# Altium integrated library Actel eX.IntLib: 132 symbols (part 4 of 6)
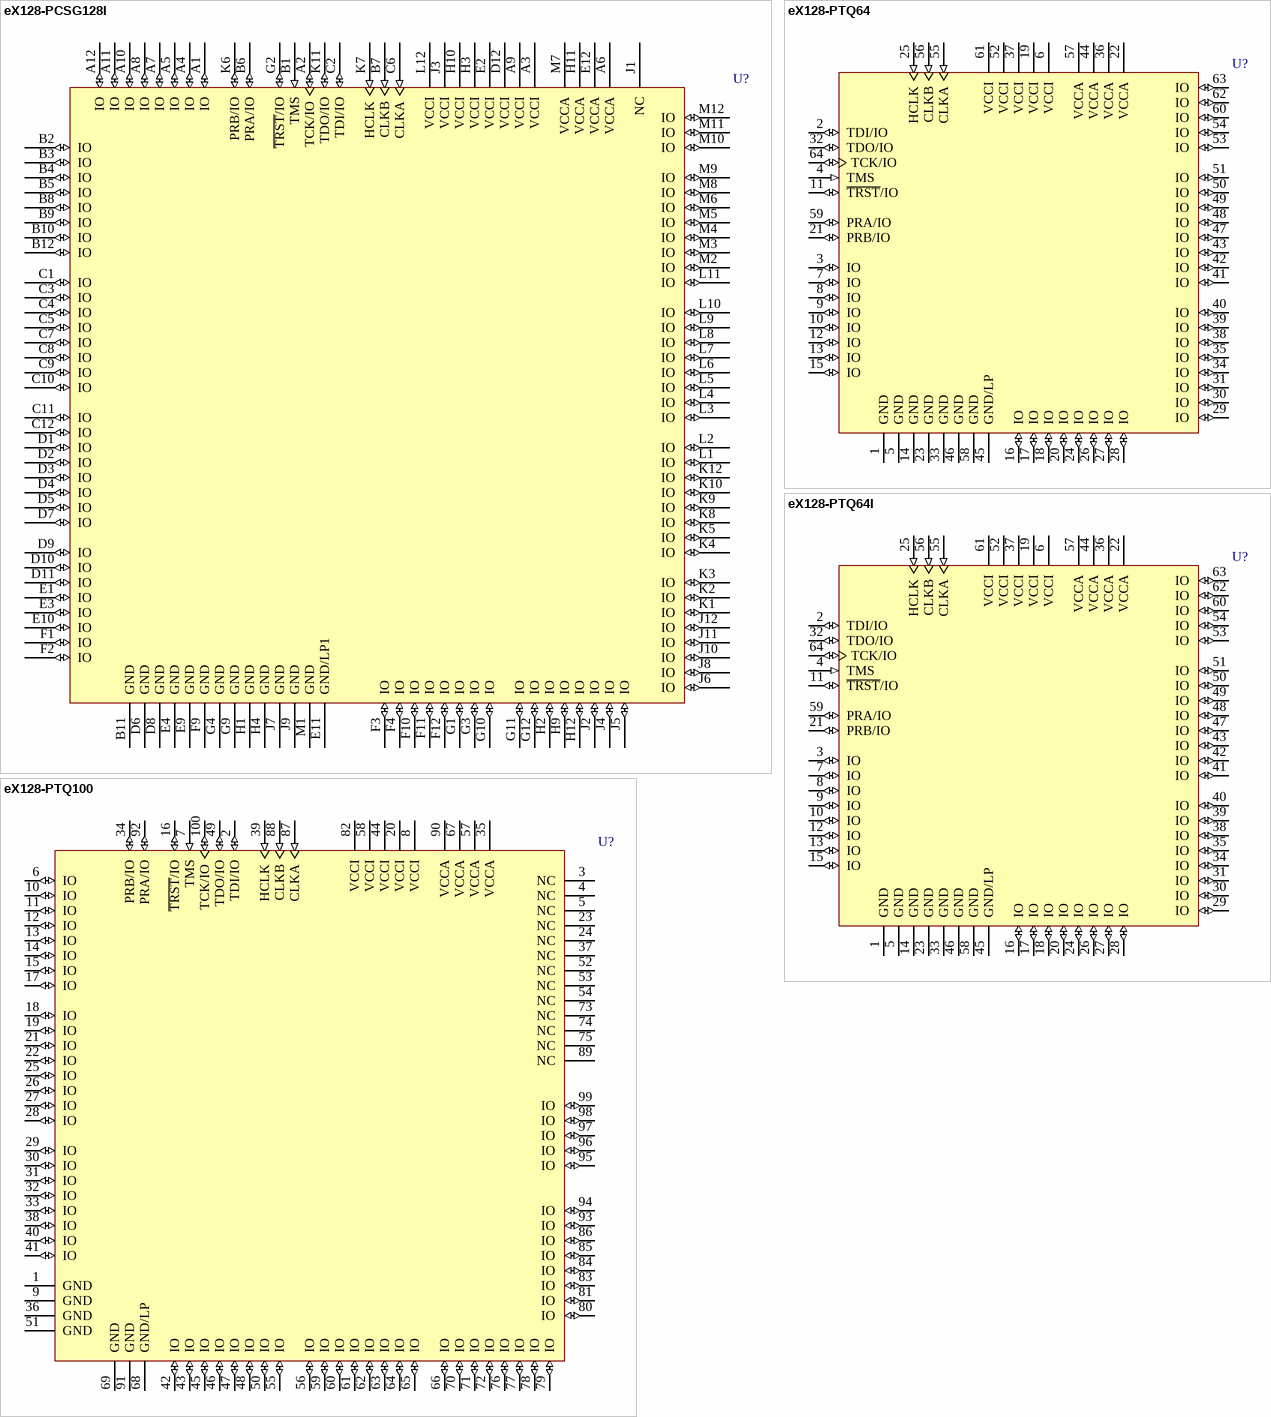
[diagram p41: symbols eX128-PCSG128I to eX128-PTQ100]

## eX128-PCSG128I
designator U?
eX128 FPGA, 100 User IOs, 128-Pin CSP, Speed Grade P, Industrial Grade, Pb-Free; DatasheetVersion: v4.3, Jun-2006; PackageVersion: ver11.2, Nov-2009; PackageReference: CS128; PackageDescription: 128-Ball Chip Scale Package (CS128); Code_JEDEC: MO-205-BD; ComponentLink1Description: Manufacturer URL; ComponentLink1URL: http://www.actel.com/; ComponentLink2Description: eX Datasheet; ComponentLink2URL: http://www.actel.com/documents/eX_DS.pdf; ComponentLink3Description: Package Mechanical Drawings; ComponentLink3URL: http://www.actel.com/documents/PckgMechDrwngs.pdf; ComponentLink4Description: eX Documents; ComponentLink4URL: http://www.actel.com/products/ex/docs.aspx
footprint CS128 (BGA, 128-Leads, Body 11x11mm, Pitch 0.8mm)
pins: A1 IO (io), A2 TCK/IO (io), A3 VCCI (power), A4 IO (io), A5 IO (io), A6 VCCA (power), A7 IO (io), A8 IO (io), A9 VCCI (power), A10 IO (io), A11 IO (io), A12 IO (io), B1 TMS (in), B2 IO (io), B3 IO (io), B4 IO (io), B5 IO (io), B6 PRA/IO (io), B7 CLKB (in), B8 IO (io), B9 IO (io), B10 IO (io), B11 GND (power), B12 IO (io), C1 IO (io), C2 TDI/IO (io), C3 IO (io), C4 IO (io), C5 IO (io), C6 CLKA (in), C7 IO (io), C8 IO (io), C9 IO (io), C10 IO (io), C11 IO (io), C12 IO (io), D1 IO (io), D2 IO (io), D3 IO (io), D4 IO (io), D5 IO (io), D6 GND (power), D7 IO (io), D8 GND (power), D9 IO (io), D10 IO (io), D11 IO (io), D12 VCCI (power), E1 IO (io), E2 VCCI (power), E3 IO (io), E4 GND (power), E9 GND (power), E10 IO (io), E11 GND/LP1 (power), E12 VCCA (power), F1 IO (io), F2 IO (io), F3 IO (io), F4 IO (io), F9 GND (power), F10 IO (io), F11 IO (io), F12 IO (io), G1 IO (io), G2 ~{TRST}/IO (io), G3 IO (io), G4 GND (power), G9 GND (power), G10 IO (io), G11 IO (io), G12 IO (io), H1 GND (power), H2 IO (io), H3 VCCI (power), H4 GND (power), H9 IO (io), H10 VCCI (power), H11 VCCA (power), H12 IO (io), J1 NC, J2 IO (io), J3 VCCI (power), J4 IO (io), J5 IO (io), J6 IO (io), J7 GND (power), J8 IO (io), J9 GND (power), J10 IO (io), J11 IO (io), J12 IO (io), K1 IO (io), K2 IO (io), K3 IO (io), K4 IO (io), K5 IO (io), K6 PRB/IO (io), K7 HCLK (in), K8 IO (io), K9 IO (io), K10 IO (io), K11 TDO/IO (io), K12 IO (io), L1 IO (io), L2 IO (io), L3 IO (io), L4 IO (io), L5 IO (io), L6 IO (io), L7 IO (io), L8 IO (io), L9 IO (io), L10 IO (io), L11 IO (io), L12 VCCI (power), M1 GND (power), M2 IO (io), M3 IO (io), M4 IO (io), M5 IO (io), M6 IO (io), M7 VCCA (power), M8 IO (io), M9 IO (io), M10 IO (io), M11 IO (io), M12 IO (io)

## eX128-PTQ64
designator U?
eX128 FPGA, 46 User IOs, 64-Pin TQFP, Speed Grade P, Commercial Grade; DatasheetVersion: v4.3, Jun-2006; PackageVersion: ver11.2, Nov-2009; PackageReference: TQ64; PackageDescription: 64-Pin Plastic Quad Flat Pack (TQ64); Code_JEDEC: MS-026-BCD; ComponentLink1Description: Manufacturer URL; ComponentLink1URL: http://www.actel.com/; ComponentLink2Description: eX Datasheet; ComponentLink2URL: http://www.actel.com/documents/eX_DS.pdf; ComponentLink3Description: Package Mechanical Drawings; ComponentLink3URL: http://www.actel.com/documents/PckgMechDrwngs.pdf; ComponentLink4Description: eX Documents; ComponentLink4URL: http://www.actel.com/products/ex/docs.aspx
footprint TQ64_N (Thin QFP, 64-Leads, Body 10x10mm, Pitch 0.5mm, IPC Medium Density)
footprint TQ64_L (Thin QFP, 64-Leads, Body 10x10mm, Pitch 0.5mm, IPC High Density)
footprint TQ64_M (Thin QFP, 64-Leads, Body 10x10mm, Pitch 0.5mm, IPC Low Density)
pins: 1 GND (power), 2 TDI/IO (io), 3 IO (io), 4 TMS (in), 5 GND (power), 6 VCCI (power), 7 IO (io), 8 IO (io), 9 IO (io), 10 IO (io), 11 ~{TRST}/IO (io), 12 IO (io), 13 IO (io), 14 GND (power), 15 IO (io), 16 IO (io), 17 IO (io), 18 IO (io), 19 VCCI (power), 20 IO (io), 21 PRB/IO (io), 22 VCCA (power), 23 GND (power), 24 IO (io), 25 HCLK (in), 26 IO (io), 27 IO (io), 28 IO (io), 29 IO (io), 30 IO (io), 31 IO (io), 32 TDO/IO (io), 33 GND (power), 34 IO (io), 35 IO (io), 36 VCCA (power), 37 VCCI (power), 38 IO (io), 39 IO (io), 40 IO (io), 41 IO (io), 42 IO (io), 43 IO (io), 44 VCCA (power), 45 GND/LP (power), 46 GND (power), 47 IO (io), 48 IO (io), 49 IO (io), 50 IO (io), 51 IO (io), 52 VCCI (power), 53 IO (io), 54 IO (io), 55 CLKA (in), 56 CLKB (in), 57 VCCA (power), 58 GND (power), 59 PRA/IO (io), 60 IO (io), 61 VCCI (power), 62 IO (io), 63 IO (io), 64 TCK/IO (io)

## eX128-PTQ64I
designator U?
eX128 FPGA, 46 User IOs, 64-Pin TQFP, Speed Grade P, Industrial Grade; DatasheetVersion: v4.3, Jun-2006; PackageVersion: ver11.2, Nov-2009; PackageReference: TQ64; PackageDescription: 64-Pin Plastic Quad Flat Pack (TQ64); Code_JEDEC: MS-026-BCD; ComponentLink1Description: Manufacturer URL; ComponentLink1URL: http://www.actel.com/; ComponentLink2Description: eX Datasheet; ComponentLink2URL: http://www.actel.com/documents/eX_DS.pdf; ComponentLink3Description: Package Mechanical Drawings; ComponentLink3URL: http://www.actel.com/documents/PckgMechDrwngs.pdf; ComponentLink4Description: eX Documents; ComponentLink4URL: http://www.actel.com/products/ex/docs.aspx
footprint TQ64_N (Thin QFP, 64-Leads, Body 10x10mm, Pitch 0.5mm, IPC Medium Density)
footprint TQ64_L (Thin QFP, 64-Leads, Body 10x10mm, Pitch 0.5mm, IPC High Density)
footprint TQ64_M (Thin QFP, 64-Leads, Body 10x10mm, Pitch 0.5mm, IPC Low Density)
pins: 1 GND (power), 2 TDI/IO (io), 3 IO (io), 4 TMS (in), 5 GND (power), 6 VCCI (power), 7 IO (io), 8 IO (io), 9 IO (io), 10 IO (io), 11 ~{TRST}/IO (io), 12 IO (io), 13 IO (io), 14 GND (power), 15 IO (io), 16 IO (io), 17 IO (io), 18 IO (io), 19 VCCI (power), 20 IO (io), 21 PRB/IO (io), 22 VCCA (power), 23 GND (power), 24 IO (io), 25 HCLK (in), 26 IO (io), 27 IO (io), 28 IO (io), 29 IO (io), 30 IO (io), 31 IO (io), 32 TDO/IO (io), 33 GND (power), 34 IO (io), 35 IO (io), 36 VCCA (power), 37 VCCI (power), 38 IO (io), 39 IO (io), 40 IO (io), 41 IO (io), 42 IO (io), 43 IO (io), 44 VCCA (power), 45 GND/LP (power), 46 GND (power), 47 IO (io), 48 IO (io), 49 IO (io), 50 IO (io), 51 IO (io), 52 VCCI (power), 53 IO (io), 54 IO (io), 55 CLKA (in), 56 CLKB (in), 57 VCCA (power), 58 GND (power), 59 PRA/IO (io), 60 IO (io), 61 VCCI (power), 62 IO (io), 63 IO (io), 64 TCK/IO (io)

## eX128-PTQ100
designator U?
eX128 FPGA, 70 User IOs, 100-Pin TQFP, Speed Grade P, Commercial Grade; DatasheetVersion: v4.3, Jun-2006; PackageVersion: ver11.2, Nov-2009; PackageReference: TQ100; PackageDescription: 100-Pin Plastic Quad Flat Pack (TQ100); Code_JEDEC: MS-026-BED; ComponentLink1Description: Manufacturer URL; ComponentLink1URL: http://www.actel.com/; ComponentLink2Description: eX Datasheet; ComponentLink2URL: http://www.actel.com/documents/eX_DS.pdf; ComponentLink3Description: Package Mechanical Drawings; ComponentLink3URL: http://www.actel.com/documents/PckgMechDrwngs.pdf; ComponentLink4Description: eX Documents; ComponentLink4URL: http://www.actel.com/products/ex/docs.aspx
footprint TQ100_N (Thin QFP, 100-Leads, Body 14x14mm, Pitch 0.5mm, IPC Medium Density)
footprint TQ100_L (Thin QFP, 100-Leads, Body 14x14mm, Pitch 0.5mm, IPC High Density)
footprint TQ100_M (Thin QFP, 100-Leads, Body 14x14mm, Pitch 0.5mm, IPC Low Density)
pins: 1 GND (power), 2 TDI/IO (io), 3 NC, 4 NC, 5 NC, 6 IO (io), 7 TMS (in), 8 VCCI (power), 9 GND (power), 10 IO (io), 11 IO (io), 12 IO (io), 13 IO (io), 14 IO (io), 15 IO (io), 16 ~{TRST}/IO (io), 17 IO (io), 18 IO (io), 19 IO (io), 20 VCCI (power), 21 IO (io), 22 IO (io), 23 NC, 24 NC, 25 IO (io), 26 IO (io), 27 IO (io), 28 IO (io), 29 IO (io), 30 IO (io), 31 IO (io), 32 IO (io), 33 IO (io), 34 PRB/IO (io), 35 VCCA (power), 36 GND (power), 37 NC, 38 IO (io), 39 HCLK (in), 40 IO (io), 41 IO (io), 42 IO (io), 43 IO (io), 44 VCCI (power), 45 IO (io), 46 IO (io), 47 IO (io), 48 IO (io), 49 TDO/IO (io), 50 IO (io), 51 GND (power), 52 NC, 53 NC, 54 NC, 55 IO (io), 56 IO (io), 57 VCCA (power), 58 VCCI (power), 59 IO (io), 60 IO (io), 61 IO (io), 62 IO (io), 63 IO (io), 64 IO (io), 65 IO (io), 66 IO (io), 67 VCCA (power), 68 GND/LP (power), 69 GND (power), 70 IO (io), 71 IO (io), 72 IO (io), 73 NC, 74 NC, 75 NC, 76 IO (io), 77 IO (io), 78 IO (io), 79 IO (io), 80 IO (io), 81 IO (io), 82 VCCI (power), 83 IO (io), 84 IO (io), 85 IO (io), 86 IO (io), 87 CLKA (in), 88 CLKB (in), 89 NC, 90 VCCA (power), 91 GND (power), 92 PRA/IO (io), 93 IO (io), 94 IO (io), 95 IO (io), 96 IO (io), 97 IO (io), 98 IO (io), 99 IO (io), 100 TCK/IO (io)

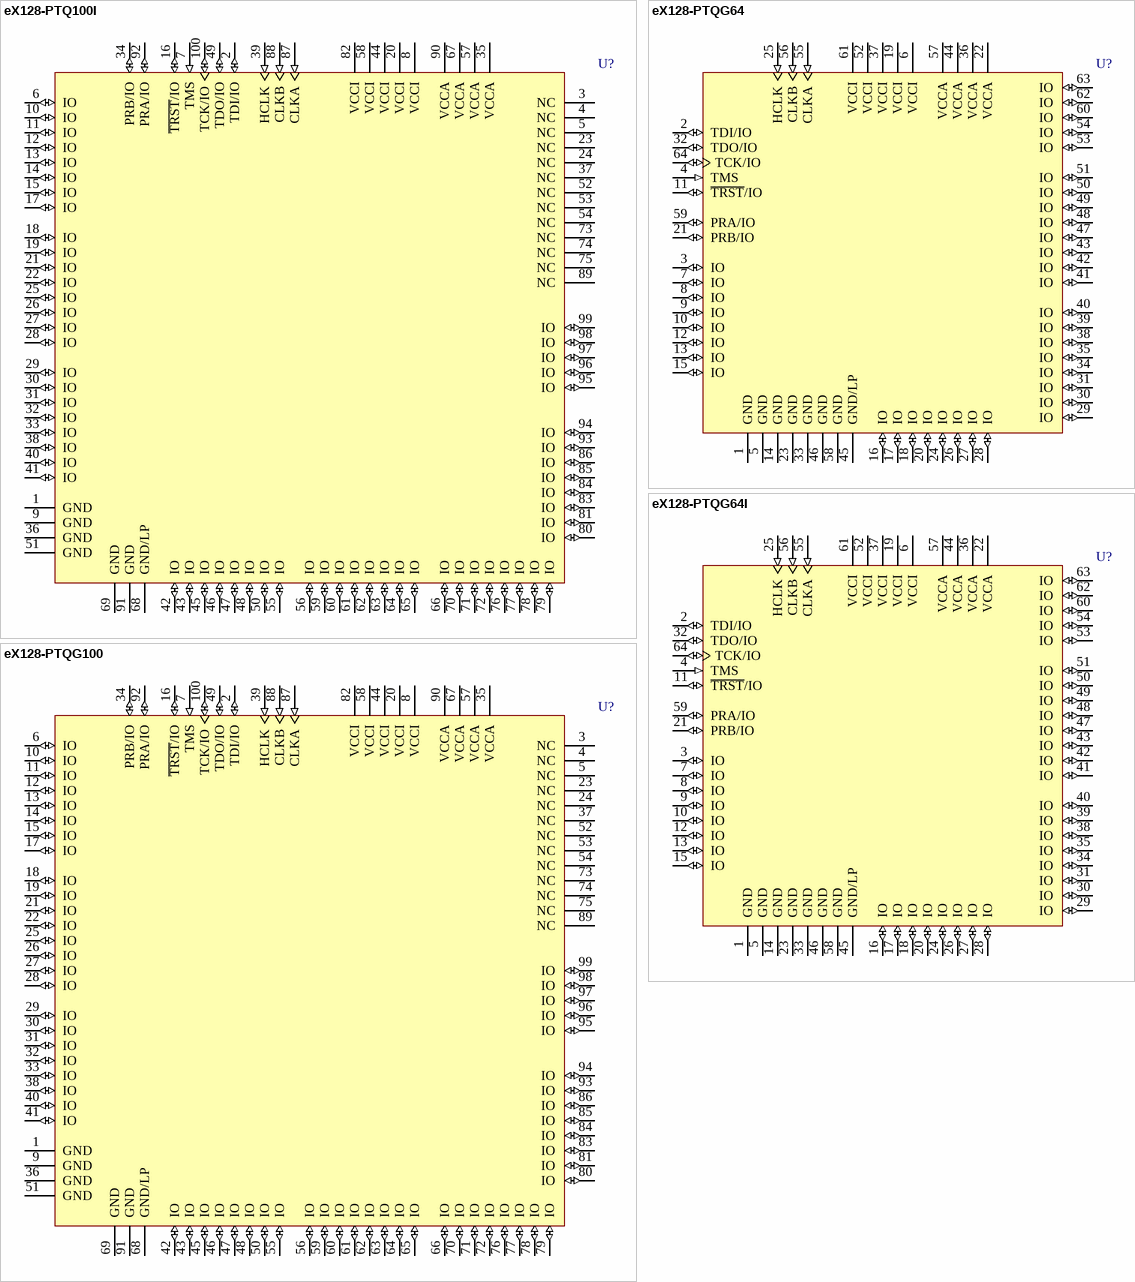
[diagram p19: symbols eX128-PTQ100I to eX128-PTQG100]

## eX128-PTQ100I
designator U?
eX128 FPGA, 70 User IOs, 100-Pin TQFP, Speed Grade P, Industrial Grade; DatasheetVersion: v4.3, Jun-2006; PackageVersion: ver11.2, Nov-2009; PackageReference: TQ100; PackageDescription: 100-Pin Plastic Quad Flat Pack (TQ100); Code_JEDEC: MS-026-BED; ComponentLink1Description: Manufacturer URL; ComponentLink1URL: http://www.actel.com/; ComponentLink2Description: eX Datasheet; ComponentLink2URL: http://www.actel.com/documents/eX_DS.pdf; ComponentLink3Description: Package Mechanical Drawings; ComponentLink3URL: http://www.actel.com/documents/PckgMechDrwngs.pdf; ComponentLink4Description: eX Documents; ComponentLink4URL: http://www.actel.com/products/ex/docs.aspx
footprint TQ100_N (Thin QFP, 100-Leads, Body 14x14mm, Pitch 0.5mm, IPC Medium Density)
footprint TQ100_L (Thin QFP, 100-Leads, Body 14x14mm, Pitch 0.5mm, IPC High Density)
footprint TQ100_M (Thin QFP, 100-Leads, Body 14x14mm, Pitch 0.5mm, IPC Low Density)
pins: 1 GND (power), 2 TDI/IO (io), 3 NC, 4 NC, 5 NC, 6 IO (io), 7 TMS (in), 8 VCCI (power), 9 GND (power), 10 IO (io), 11 IO (io), 12 IO (io), 13 IO (io), 14 IO (io), 15 IO (io), 16 ~{TRST}/IO (io), 17 IO (io), 18 IO (io), 19 IO (io), 20 VCCI (power), 21 IO (io), 22 IO (io), 23 NC, 24 NC, 25 IO (io), 26 IO (io), 27 IO (io), 28 IO (io), 29 IO (io), 30 IO (io), 31 IO (io), 32 IO (io), 33 IO (io), 34 PRB/IO (io), 35 VCCA (power), 36 GND (power), 37 NC, 38 IO (io), 39 HCLK (in), 40 IO (io), 41 IO (io), 42 IO (io), 43 IO (io), 44 VCCI (power), 45 IO (io), 46 IO (io), 47 IO (io), 48 IO (io), 49 TDO/IO (io), 50 IO (io), 51 GND (power), 52 NC, 53 NC, 54 NC, 55 IO (io), 56 IO (io), 57 VCCA (power), 58 VCCI (power), 59 IO (io), 60 IO (io), 61 IO (io), 62 IO (io), 63 IO (io), 64 IO (io), 65 IO (io), 66 IO (io), 67 VCCA (power), 68 GND/LP (power), 69 GND (power), 70 IO (io), 71 IO (io), 72 IO (io), 73 NC, 74 NC, 75 NC, 76 IO (io), 77 IO (io), 78 IO (io), 79 IO (io), 80 IO (io), 81 IO (io), 82 VCCI (power), 83 IO (io), 84 IO (io), 85 IO (io), 86 IO (io), 87 CLKA (in), 88 CLKB (in), 89 NC, 90 VCCA (power), 91 GND (power), 92 PRA/IO (io), 93 IO (io), 94 IO (io), 95 IO (io), 96 IO (io), 97 IO (io), 98 IO (io), 99 IO (io), 100 TCK/IO (io)

## eX128-PTQG64
designator U?
eX128 FPGA, 46 User IOs, 64-Pin TQFP, Speed Grade P, Commercial Grade, Pb-Free; DatasheetVersion: v4.3, Jun-2006; PackageVersion: ver11.2, Nov-2009; PackageReference: TQ64; PackageDescription: 64-Pin Plastic Quad Flat Pack (TQ64); Code_JEDEC: MS-026-BCD; ComponentLink1Description: Manufacturer URL; ComponentLink1URL: http://www.actel.com/; ComponentLink2Description: eX Datasheet; ComponentLink2URL: http://www.actel.com/documents/eX_DS.pdf; ComponentLink3Description: Package Mechanical Drawings; ComponentLink3URL: http://www.actel.com/documents/PckgMechDrwngs.pdf; ComponentLink4Description: eX Documents; ComponentLink4URL: http://www.actel.com/products/ex/docs.aspx
footprint TQ64_N (Thin QFP, 64-Leads, Body 10x10mm, Pitch 0.5mm, IPC Medium Density)
footprint TQ64_L (Thin QFP, 64-Leads, Body 10x10mm, Pitch 0.5mm, IPC High Density)
footprint TQ64_M (Thin QFP, 64-Leads, Body 10x10mm, Pitch 0.5mm, IPC Low Density)
pins: 1 GND (power), 2 TDI/IO (io), 3 IO (io), 4 TMS (in), 5 GND (power), 6 VCCI (power), 7 IO (io), 8 IO (io), 9 IO (io), 10 IO (io), 11 ~{TRST}/IO (io), 12 IO (io), 13 IO (io), 14 GND (power), 15 IO (io), 16 IO (io), 17 IO (io), 18 IO (io), 19 VCCI (power), 20 IO (io), 21 PRB/IO (io), 22 VCCA (power), 23 GND (power), 24 IO (io), 25 HCLK (in), 26 IO (io), 27 IO (io), 28 IO (io), 29 IO (io), 30 IO (io), 31 IO (io), 32 TDO/IO (io), 33 GND (power), 34 IO (io), 35 IO (io), 36 VCCA (power), 37 VCCI (power), 38 IO (io), 39 IO (io), 40 IO (io), 41 IO (io), 42 IO (io), 43 IO (io), 44 VCCA (power), 45 GND/LP (power), 46 GND (power), 47 IO (io), 48 IO (io), 49 IO (io), 50 IO (io), 51 IO (io), 52 VCCI (power), 53 IO (io), 54 IO (io), 55 CLKA (in), 56 CLKB (in), 57 VCCA (power), 58 GND (power), 59 PRA/IO (io), 60 IO (io), 61 VCCI (power), 62 IO (io), 63 IO (io), 64 TCK/IO (io)

## eX128-PTQG64I
designator U?
eX128 FPGA, 46 User IOs, 64-Pin TQFP, Speed Grade P, Industrial Grade, Pb-Free; DatasheetVersion: v4.3, Jun-2006; PackageVersion: ver11.2, Nov-2009; PackageReference: TQ64; PackageDescription: 64-Pin Plastic Quad Flat Pack (TQ64); Code_JEDEC: MS-026-BCD; ComponentLink1Description: Manufacturer URL; ComponentLink1URL: http://www.actel.com/; ComponentLink2Description: eX Datasheet; ComponentLink2URL: http://www.actel.com/documents/eX_DS.pdf; ComponentLink3Description: Package Mechanical Drawings; ComponentLink3URL: http://www.actel.com/documents/PckgMechDrwngs.pdf; ComponentLink4Description: eX Documents; ComponentLink4URL: http://www.actel.com/products/ex/docs.aspx
footprint TQ64_N (Thin QFP, 64-Leads, Body 10x10mm, Pitch 0.5mm, IPC Medium Density)
footprint TQ64_L (Thin QFP, 64-Leads, Body 10x10mm, Pitch 0.5mm, IPC High Density)
footprint TQ64_M (Thin QFP, 64-Leads, Body 10x10mm, Pitch 0.5mm, IPC Low Density)
pins: 1 GND (power), 2 TDI/IO (io), 3 IO (io), 4 TMS (in), 5 GND (power), 6 VCCI (power), 7 IO (io), 8 IO (io), 9 IO (io), 10 IO (io), 11 ~{TRST}/IO (io), 12 IO (io), 13 IO (io), 14 GND (power), 15 IO (io), 16 IO (io), 17 IO (io), 18 IO (io), 19 VCCI (power), 20 IO (io), 21 PRB/IO (io), 22 VCCA (power), 23 GND (power), 24 IO (io), 25 HCLK (in), 26 IO (io), 27 IO (io), 28 IO (io), 29 IO (io), 30 IO (io), 31 IO (io), 32 TDO/IO (io), 33 GND (power), 34 IO (io), 35 IO (io), 36 VCCA (power), 37 VCCI (power), 38 IO (io), 39 IO (io), 40 IO (io), 41 IO (io), 42 IO (io), 43 IO (io), 44 VCCA (power), 45 GND/LP (power), 46 GND (power), 47 IO (io), 48 IO (io), 49 IO (io), 50 IO (io), 51 IO (io), 52 VCCI (power), 53 IO (io), 54 IO (io), 55 CLKA (in), 56 CLKB (in), 57 VCCA (power), 58 GND (power), 59 PRA/IO (io), 60 IO (io), 61 VCCI (power), 62 IO (io), 63 IO (io), 64 TCK/IO (io)

## eX128-PTQG100
designator U?
eX128 FPGA, 70 User IOs, 100-Pin TQFP, Speed Grade P, Commercial Grade, Pb-Free; DatasheetVersion: v4.3, Jun-2006; PackageVersion: ver11.2, Nov-2009; PackageReference: TQ100; PackageDescription: 100-Pin Plastic Quad Flat Pack (TQ100); Code_JEDEC: MS-026-BED; ComponentLink1Description: Manufacturer URL; ComponentLink1URL: http://www.actel.com/; ComponentLink2Description: eX Datasheet; ComponentLink2URL: http://www.actel.com/documents/eX_DS.pdf; ComponentLink3Description: Package Mechanical Drawings; ComponentLink3URL: http://www.actel.com/documents/PckgMechDrwngs.pdf; ComponentLink4Description: eX Documents; ComponentLink4URL: http://www.actel.com/products/ex/docs.aspx
footprint TQ100_N (Thin QFP, 100-Leads, Body 14x14mm, Pitch 0.5mm, IPC Medium Density)
footprint TQ100_L (Thin QFP, 100-Leads, Body 14x14mm, Pitch 0.5mm, IPC High Density)
footprint TQ100_M (Thin QFP, 100-Leads, Body 14x14mm, Pitch 0.5mm, IPC Low Density)
pins: 1 GND (power), 2 TDI/IO (io), 3 NC, 4 NC, 5 NC, 6 IO (io), 7 TMS (in), 8 VCCI (power), 9 GND (power), 10 IO (io), 11 IO (io), 12 IO (io), 13 IO (io), 14 IO (io), 15 IO (io), 16 ~{TRST}/IO (io), 17 IO (io), 18 IO (io), 19 IO (io), 20 VCCI (power), 21 IO (io), 22 IO (io), 23 NC, 24 NC, 25 IO (io), 26 IO (io), 27 IO (io), 28 IO (io), 29 IO (io), 30 IO (io), 31 IO (io), 32 IO (io), 33 IO (io), 34 PRB/IO (io), 35 VCCA (power), 36 GND (power), 37 NC, 38 IO (io), 39 HCLK (in), 40 IO (io), 41 IO (io), 42 IO (io), 43 IO (io), 44 VCCI (power), 45 IO (io), 46 IO (io), 47 IO (io), 48 IO (io), 49 TDO/IO (io), 50 IO (io), 51 GND (power), 52 NC, 53 NC, 54 NC, 55 IO (io), 56 IO (io), 57 VCCA (power), 58 VCCI (power), 59 IO (io), 60 IO (io), 61 IO (io), 62 IO (io), 63 IO (io), 64 IO (io), 65 IO (io), 66 IO (io), 67 VCCA (power), 68 GND/LP (power), 69 GND (power), 70 IO (io), 71 IO (io), 72 IO (io), 73 NC, 74 NC, 75 NC, 76 IO (io), 77 IO (io), 78 IO (io), 79 IO (io), 80 IO (io), 81 IO (io), 82 VCCI (power), 83 IO (io), 84 IO (io), 85 IO (io), 86 IO (io), 87 CLKA (in), 88 CLKB (in), 89 NC, 90 VCCA (power), 91 GND (power), 92 PRA/IO (io), 93 IO (io), 94 IO (io), 95 IO (io), 96 IO (io), 97 IO (io), 98 IO (io), 99 IO (io), 100 TCK/IO (io)

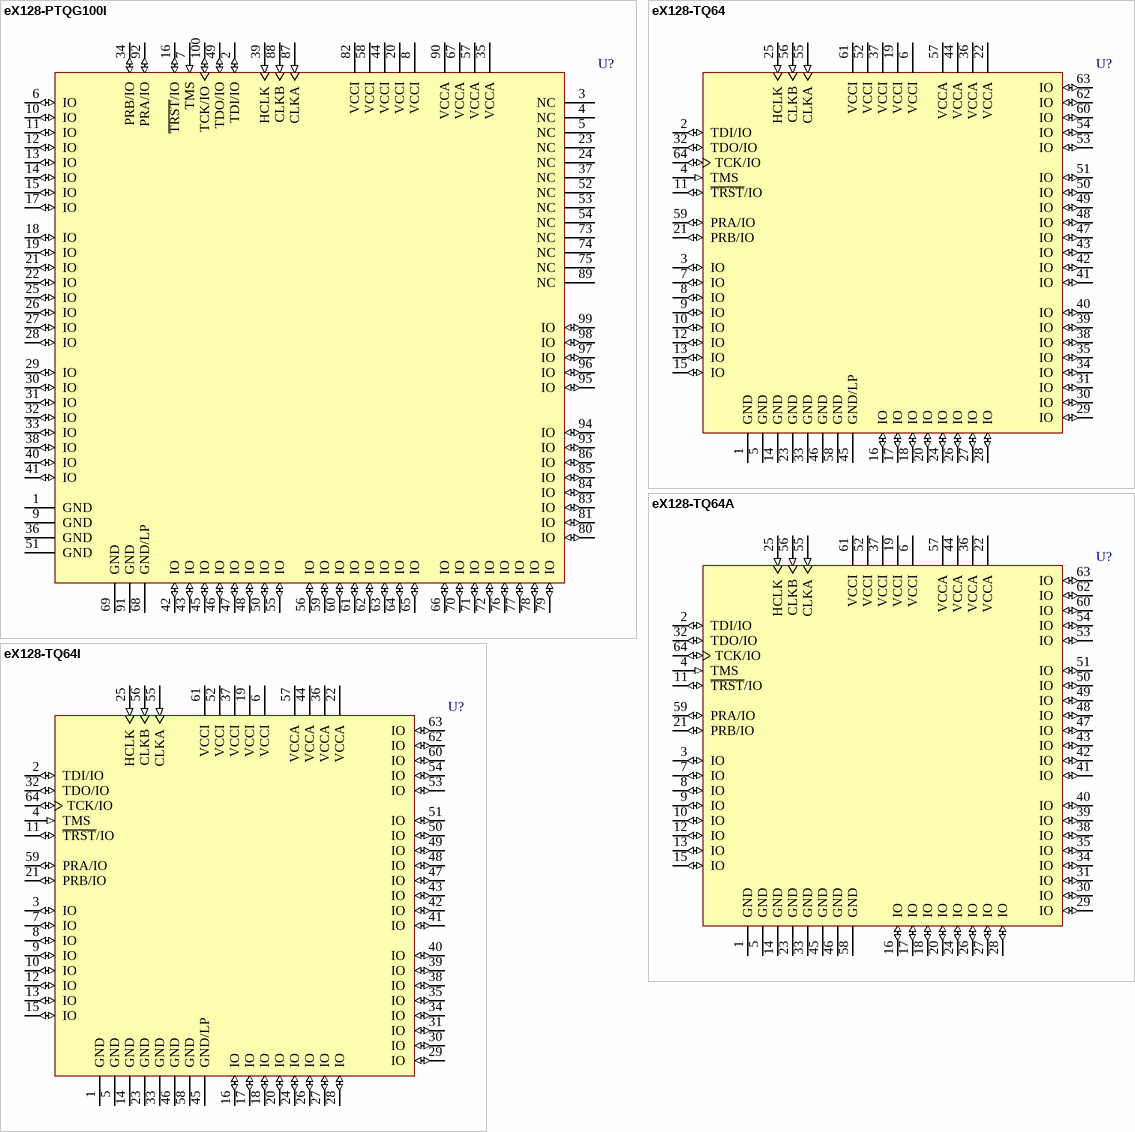
[diagram p20: symbols eX128-PTQG100I to eX128-TQ64I]

## eX128-PTQG100I
designator U?
eX128 FPGA, 70 User IOs, 100-Pin TQFP, Speed Grade P, Industrial Grade, Pb-Free; DatasheetVersion: v4.3, Jun-2006; PackageVersion: ver11.2, Nov-2009; PackageReference: TQ100; PackageDescription: 100-Pin Plastic Quad Flat Pack (TQ100); Code_JEDEC: MS-026-BED; ComponentLink1Description: Manufacturer URL; ComponentLink1URL: http://www.actel.com/; ComponentLink2Description: eX Datasheet; ComponentLink2URL: http://www.actel.com/documents/eX_DS.pdf; ComponentLink3Description: Package Mechanical Drawings; ComponentLink3URL: http://www.actel.com/documents/PckgMechDrwngs.pdf; ComponentLink4Description: eX Documents; ComponentLink4URL: http://www.actel.com/products/ex/docs.aspx
footprint TQ100_N (Thin QFP, 100-Leads, Body 14x14mm, Pitch 0.5mm, IPC Medium Density)
footprint TQ100_L (Thin QFP, 100-Leads, Body 14x14mm, Pitch 0.5mm, IPC High Density)
footprint TQ100_M (Thin QFP, 100-Leads, Body 14x14mm, Pitch 0.5mm, IPC Low Density)
pins: 1 GND (power), 2 TDI/IO (io), 3 NC, 4 NC, 5 NC, 6 IO (io), 7 TMS (in), 8 VCCI (power), 9 GND (power), 10 IO (io), 11 IO (io), 12 IO (io), 13 IO (io), 14 IO (io), 15 IO (io), 16 ~{TRST}/IO (io), 17 IO (io), 18 IO (io), 19 IO (io), 20 VCCI (power), 21 IO (io), 22 IO (io), 23 NC, 24 NC, 25 IO (io), 26 IO (io), 27 IO (io), 28 IO (io), 29 IO (io), 30 IO (io), 31 IO (io), 32 IO (io), 33 IO (io), 34 PRB/IO (io), 35 VCCA (power), 36 GND (power), 37 NC, 38 IO (io), 39 HCLK (in), 40 IO (io), 41 IO (io), 42 IO (io), 43 IO (io), 44 VCCI (power), 45 IO (io), 46 IO (io), 47 IO (io), 48 IO (io), 49 TDO/IO (io), 50 IO (io), 51 GND (power), 52 NC, 53 NC, 54 NC, 55 IO (io), 56 IO (io), 57 VCCA (power), 58 VCCI (power), 59 IO (io), 60 IO (io), 61 IO (io), 62 IO (io), 63 IO (io), 64 IO (io), 65 IO (io), 66 IO (io), 67 VCCA (power), 68 GND/LP (power), 69 GND (power), 70 IO (io), 71 IO (io), 72 IO (io), 73 NC, 74 NC, 75 NC, 76 IO (io), 77 IO (io), 78 IO (io), 79 IO (io), 80 IO (io), 81 IO (io), 82 VCCI (power), 83 IO (io), 84 IO (io), 85 IO (io), 86 IO (io), 87 CLKA (in), 88 CLKB (in), 89 NC, 90 VCCA (power), 91 GND (power), 92 PRA/IO (io), 93 IO (io), 94 IO (io), 95 IO (io), 96 IO (io), 97 IO (io), 98 IO (io), 99 IO (io), 100 TCK/IO (io)

## eX128-TQ64
designator U?
eX128 FPGA, 46 User IOs, 64-Pin TQFP, Speed Grade Standard, Commercial Grade; DatasheetVersion: v4.3, Jun-2006; PackageVersion: ver11.2, Nov-2009; PackageReference: TQ64; PackageDescription: 64-Pin Plastic Quad Flat Pack (TQ64); Code_JEDEC: MS-026-BCD; ComponentLink1Description: Manufacturer URL; ComponentLink1URL: http://www.actel.com/; ComponentLink2Description: eX Datasheet; ComponentLink2URL: http://www.actel.com/documents/eX_DS.pdf; ComponentLink3Description: Package Mechanical Drawings; ComponentLink3URL: http://www.actel.com/documents/PckgMechDrwngs.pdf; ComponentLink4Description: eX Documents; ComponentLink4URL: http://www.actel.com/products/ex/docs.aspx
footprint TQ64_N (Thin QFP, 64-Leads, Body 10x10mm, Pitch 0.5mm, IPC Medium Density)
footprint TQ64_L (Thin QFP, 64-Leads, Body 10x10mm, Pitch 0.5mm, IPC High Density)
footprint TQ64_M (Thin QFP, 64-Leads, Body 10x10mm, Pitch 0.5mm, IPC Low Density)
pins: 1 GND (power), 2 TDI/IO (io), 3 IO (io), 4 TMS (in), 5 GND (power), 6 VCCI (power), 7 IO (io), 8 IO (io), 9 IO (io), 10 IO (io), 11 ~{TRST}/IO (io), 12 IO (io), 13 IO (io), 14 GND (power), 15 IO (io), 16 IO (io), 17 IO (io), 18 IO (io), 19 VCCI (power), 20 IO (io), 21 PRB/IO (io), 22 VCCA (power), 23 GND (power), 24 IO (io), 25 HCLK (in), 26 IO (io), 27 IO (io), 28 IO (io), 29 IO (io), 30 IO (io), 31 IO (io), 32 TDO/IO (io), 33 GND (power), 34 IO (io), 35 IO (io), 36 VCCA (power), 37 VCCI (power), 38 IO (io), 39 IO (io), 40 IO (io), 41 IO (io), 42 IO (io), 43 IO (io), 44 VCCA (power), 45 GND/LP (power), 46 GND (power), 47 IO (io), 48 IO (io), 49 IO (io), 50 IO (io), 51 IO (io), 52 VCCI (power), 53 IO (io), 54 IO (io), 55 CLKA (in), 56 CLKB (in), 57 VCCA (power), 58 GND (power), 59 PRA/IO (io), 60 IO (io), 61 VCCI (power), 62 IO (io), 63 IO (io), 64 TCK/IO (io)

## eX128-TQ64A
designator U?
eX128 FPGA, 46 User IOs, 64-Pin TQFP, Speed Grade Standard, Automotive Grade; DatasheetVersion: v3.2, Jun-2006; PackageVersion: ver11.2, Nov-2009; PackageReference: TQ64; PackageDescription: 64-Pin Plastic Quad Flat Pack (TQ64); Code_JEDEC: MS-026-BCD; ComponentLink1Description: Manufacturer URL; ComponentLink1URL: http://www.actel.com/; ComponentLink2Description: eX Datasheet; ComponentLink2URL: http://www.actel.com/documents/MX_Auto_DS.pdf; ComponentLink3Description: Package Mechanical Drawings; ComponentLink3URL: http://www.actel.com/documents/PckgMechDrwngs.pdf; ComponentLink4Description: eX Documents; ComponentLink4URL: http://www.actel.com/products/ex/docs.aspx
footprint TQ64_N (Thin QFP, 64-Leads, Body 10x10mm, Pitch 0.5mm, IPC Medium Density)
footprint TQ64_L (Thin QFP, 64-Leads, Body 10x10mm, Pitch 0.5mm, IPC High Density)
footprint TQ64_M (Thin QFP, 64-Leads, Body 10x10mm, Pitch 0.5mm, IPC Low Density)
pins: 1 GND (power), 2 TDI/IO (io), 3 IO (io), 4 TMS (in), 5 GND (power), 6 VCCI (power), 7 IO (io), 8 IO (io), 9 IO (io), 10 IO (io), 11 ~{TRST}/IO (io), 12 IO (io), 13 IO (io), 14 GND (power), 15 IO (io), 16 IO (io), 17 IO (io), 18 IO (io), 19 VCCI (power), 20 IO (io), 21 PRB/IO (io), 22 VCCA (power), 23 GND (power), 24 IO (io), 25 HCLK (in), 26 IO (io), 27 IO (io), 28 IO (io), 29 IO (io), 30 IO (io), 31 IO (io), 32 TDO/IO (io), 33 GND (power), 34 IO (io), 35 IO (io), 36 VCCA (power), 37 VCCI (power), 38 IO (io), 39 IO (io), 40 IO (io), 41 IO (io), 42 IO (io), 43 IO (io), 44 VCCA (power), 45 GND (power), 46 GND (power), 47 IO (io), 48 IO (io), 49 IO (io), 50 IO (io), 51 IO (io), 52 VCCI (power), 53 IO (io), 54 IO (io), 55 CLKA (in), 56 CLKB (in), 57 VCCA (power), 58 GND (power), 59 PRA/IO (io), 60 IO (io), 61 VCCI (power), 62 IO (io), 63 IO (io), 64 TCK/IO (io)

## eX128-TQ64I
designator U?
eX128 FPGA, 46 User IOs, 64-Pin TQFP, Speed Grade Standard, Industrial Grade; DatasheetVersion: v4.3, Jun-2006; PackageVersion: ver11.2, Nov-2009; PackageReference: TQ64; PackageDescription: 64-Pin Plastic Quad Flat Pack (TQ64); Code_JEDEC: MS-026-BCD; ComponentLink1Description: Manufacturer URL; ComponentLink1URL: http://www.actel.com/; ComponentLink2Description: eX Datasheet; ComponentLink2URL: http://www.actel.com/documents/eX_DS.pdf; ComponentLink3Description: Package Mechanical Drawings; ComponentLink3URL: http://www.actel.com/documents/PckgMechDrwngs.pdf; ComponentLink4Description: eX Documents; ComponentLink4URL: http://www.actel.com/products/ex/docs.aspx
footprint TQ64_N (Thin QFP, 64-Leads, Body 10x10mm, Pitch 0.5mm, IPC Medium Density)
footprint TQ64_L (Thin QFP, 64-Leads, Body 10x10mm, Pitch 0.5mm, IPC High Density)
footprint TQ64_M (Thin QFP, 64-Leads, Body 10x10mm, Pitch 0.5mm, IPC Low Density)
pins: 1 GND (power), 2 TDI/IO (io), 3 IO (io), 4 TMS (in), 5 GND (power), 6 VCCI (power), 7 IO (io), 8 IO (io), 9 IO (io), 10 IO (io), 11 ~{TRST}/IO (io), 12 IO (io), 13 IO (io), 14 GND (power), 15 IO (io), 16 IO (io), 17 IO (io), 18 IO (io), 19 VCCI (power), 20 IO (io), 21 PRB/IO (io), 22 VCCA (power), 23 GND (power), 24 IO (io), 25 HCLK (in), 26 IO (io), 27 IO (io), 28 IO (io), 29 IO (io), 30 IO (io), 31 IO (io), 32 TDO/IO (io), 33 GND (power), 34 IO (io), 35 IO (io), 36 VCCA (power), 37 VCCI (power), 38 IO (io), 39 IO (io), 40 IO (io), 41 IO (io), 42 IO (io), 43 IO (io), 44 VCCA (power), 45 GND/LP (power), 46 GND (power), 47 IO (io), 48 IO (io), 49 IO (io), 50 IO (io), 51 IO (io), 52 VCCI (power), 53 IO (io), 54 IO (io), 55 CLKA (in), 56 CLKB (in), 57 VCCA (power), 58 GND (power), 59 PRA/IO (io), 60 IO (io), 61 VCCI (power), 62 IO (io), 63 IO (io), 64 TCK/IO (io)

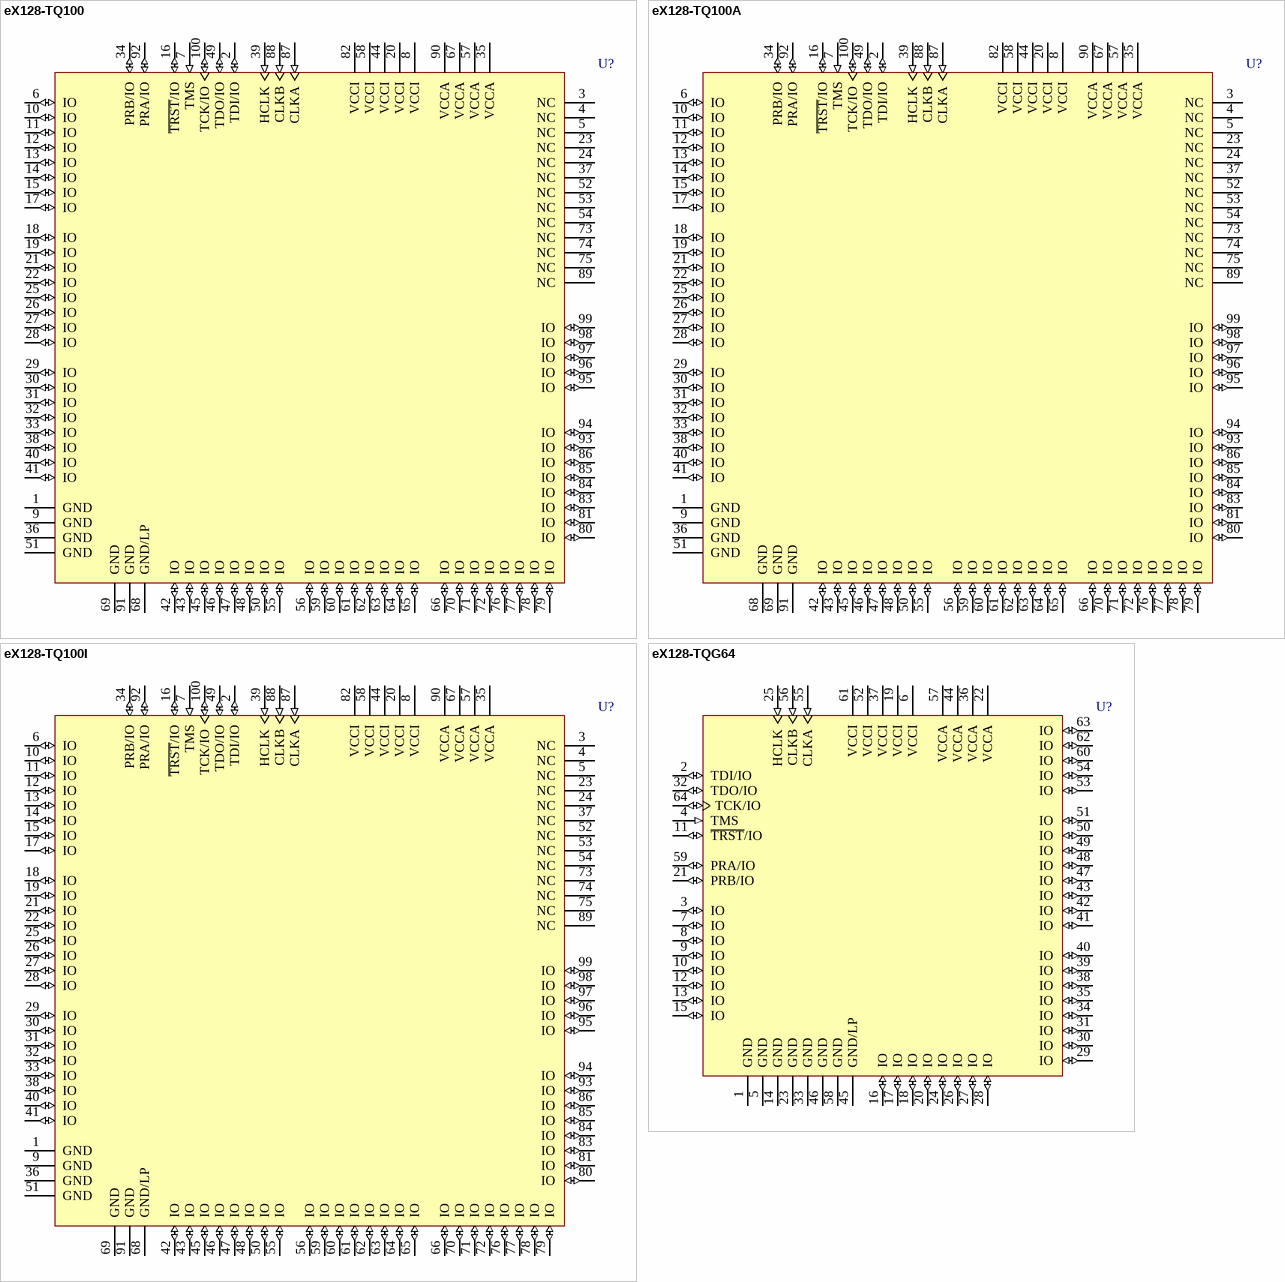
[diagram p21: symbols eX128-TQ100 to eX128-TQG64]

## eX128-TQ100
designator U?
eX128 FPGA, 70 User IOs, 100-Pin TQFP, Speed Grade Standard, Commercial Grade; DatasheetVersion: v4.3, Jun-2006; PackageVersion: ver11.2, Nov-2009; PackageReference: TQ100; PackageDescription: 100-Pin Plastic Quad Flat Pack (TQ100); Code_JEDEC: MS-026-BED; ComponentLink1Description: Manufacturer URL; ComponentLink1URL: http://www.actel.com/; ComponentLink2Description: eX Datasheet; ComponentLink2URL: http://www.actel.com/documents/eX_DS.pdf; ComponentLink3Description: Package Mechanical Drawings; ComponentLink3URL: http://www.actel.com/documents/PckgMechDrwngs.pdf; ComponentLink4Description: eX Documents; ComponentLink4URL: http://www.actel.com/products/ex/docs.aspx
footprint TQ100_N (Thin QFP, 100-Leads, Body 14x14mm, Pitch 0.5mm, IPC Medium Density)
footprint TQ100_L (Thin QFP, 100-Leads, Body 14x14mm, Pitch 0.5mm, IPC High Density)
footprint TQ100_M (Thin QFP, 100-Leads, Body 14x14mm, Pitch 0.5mm, IPC Low Density)
pins: 1 GND (power), 2 TDI/IO (io), 3 NC, 4 NC, 5 NC, 6 IO (io), 7 TMS (in), 8 VCCI (power), 9 GND (power), 10 IO (io), 11 IO (io), 12 IO (io), 13 IO (io), 14 IO (io), 15 IO (io), 16 ~{TRST}/IO (io), 17 IO (io), 18 IO (io), 19 IO (io), 20 VCCI (power), 21 IO (io), 22 IO (io), 23 NC, 24 NC, 25 IO (io), 26 IO (io), 27 IO (io), 28 IO (io), 29 IO (io), 30 IO (io), 31 IO (io), 32 IO (io), 33 IO (io), 34 PRB/IO (io), 35 VCCA (power), 36 GND (power), 37 NC, 38 IO (io), 39 HCLK (in), 40 IO (io), 41 IO (io), 42 IO (io), 43 IO (io), 44 VCCI (power), 45 IO (io), 46 IO (io), 47 IO (io), 48 IO (io), 49 TDO/IO (io), 50 IO (io), 51 GND (power), 52 NC, 53 NC, 54 NC, 55 IO (io), 56 IO (io), 57 VCCA (power), 58 VCCI (power), 59 IO (io), 60 IO (io), 61 IO (io), 62 IO (io), 63 IO (io), 64 IO (io), 65 IO (io), 66 IO (io), 67 VCCA (power), 68 GND/LP (power), 69 GND (power), 70 IO (io), 71 IO (io), 72 IO (io), 73 NC, 74 NC, 75 NC, 76 IO (io), 77 IO (io), 78 IO (io), 79 IO (io), 80 IO (io), 81 IO (io), 82 VCCI (power), 83 IO (io), 84 IO (io), 85 IO (io), 86 IO (io), 87 CLKA (in), 88 CLKB (in), 89 NC, 90 VCCA (power), 91 GND (power), 92 PRA/IO (io), 93 IO (io), 94 IO (io), 95 IO (io), 96 IO (io), 97 IO (io), 98 IO (io), 99 IO (io), 100 TCK/IO (io)

## eX128-TQ100A
designator U?
eX128 FPGA, 70 User IOs, 100-Pin TQFP, Speed Grade Standard, Automotive Grade; DatasheetVersion: v3.2, Jun-2006; PackageVersion: ver11.2, Nov-2009; PackageReference: TQ100; PackageDescription: 100-Pin Plastic Quad Flat Pack (TQ100); Code_JEDEC: MS-026-BED; ComponentLink1Description: Manufacturer URL; ComponentLink1URL: http://www.actel.com/; ComponentLink2Description: eX Datasheet; ComponentLink2URL: http://www.actel.com/documents/MX_Auto_DS.pdf; ComponentLink3Description: Package Mechanical Drawings; ComponentLink3URL: http://www.actel.com/documents/PckgMechDrwngs.pdf; ComponentLink4Description: eX Documents; ComponentLink4URL: http://www.actel.com/products/ex/docs.aspx
footprint TQ100_N (Thin QFP, 100-Leads, Body 14x14mm, Pitch 0.5mm, IPC Medium Density)
footprint TQ100_L (Thin QFP, 100-Leads, Body 14x14mm, Pitch 0.5mm, IPC High Density)
footprint TQ100_M (Thin QFP, 100-Leads, Body 14x14mm, Pitch 0.5mm, IPC Low Density)
pins: 1 GND (power), 2 TDI/IO (io), 3 NC, 4 NC, 5 NC, 6 IO (io), 7 TMS (in), 8 VCCI (power), 9 GND (power), 10 IO (io), 11 IO (io), 12 IO (io), 13 IO (io), 14 IO (io), 15 IO (io), 16 ~{TRST}/IO (io), 17 IO (io), 18 IO (io), 19 IO (io), 20 VCCI (power), 21 IO (io), 22 IO (io), 23 NC, 24 NC, 25 IO (io), 26 IO (io), 27 IO (io), 28 IO (io), 29 IO (io), 30 IO (io), 31 IO (io), 32 IO (io), 33 IO (io), 34 PRB/IO (io), 35 VCCA (power), 36 GND (power), 37 NC, 38 IO (io), 39 HCLK (in), 40 IO (io), 41 IO (io), 42 IO (io), 43 IO (io), 44 VCCI (power), 45 IO (io), 46 IO (io), 47 IO (io), 48 IO (io), 49 TDO/IO (io), 50 IO (io), 51 GND (power), 52 NC, 53 NC, 54 NC, 55 IO (io), 56 IO (io), 57 VCCA (power), 58 VCCI (power), 59 IO (io), 60 IO (io), 61 IO (io), 62 IO (io), 63 IO (io), 64 IO (io), 65 IO (io), 66 IO (io), 67 VCCA (power), 68 GND (power), 69 GND (power), 70 IO (io), 71 IO (io), 72 IO (io), 73 NC, 74 NC, 75 NC, 76 IO (io), 77 IO (io), 78 IO (io), 79 IO (io), 80 IO (io), 81 IO (io), 82 VCCI (power), 83 IO (io), 84 IO (io), 85 IO (io), 86 IO (io), 87 CLKA (in), 88 CLKB (in), 89 NC, 90 VCCA (power), 91 GND (power), 92 PRA/IO (io), 93 IO (io), 94 IO (io), 95 IO (io), 96 IO (io), 97 IO (io), 98 IO (io), 99 IO (io), 100 TCK/IO (io)

## eX128-TQ100I
designator U?
eX128 FPGA, 70 User IOs, 100-Pin TQFP, Speed Grade Standard, Industrial Grade; DatasheetVersion: v4.3, Jun-2006; PackageVersion: ver11.2, Nov-2009; PackageReference: TQ100; PackageDescription: 100-Pin Plastic Quad Flat Pack (TQ100); Code_JEDEC: MS-026-BED; ComponentLink1Description: Manufacturer URL; ComponentLink1URL: http://www.actel.com/; ComponentLink2Description: eX Datasheet; ComponentLink2URL: http://www.actel.com/documents/eX_DS.pdf; ComponentLink3Description: Package Mechanical Drawings; ComponentLink3URL: http://www.actel.com/documents/PckgMechDrwngs.pdf; ComponentLink4Description: eX Documents; ComponentLink4URL: http://www.actel.com/products/ex/docs.aspx
footprint TQ100_N (Thin QFP, 100-Leads, Body 14x14mm, Pitch 0.5mm, IPC Medium Density)
footprint TQ100_L (Thin QFP, 100-Leads, Body 14x14mm, Pitch 0.5mm, IPC High Density)
footprint TQ100_M (Thin QFP, 100-Leads, Body 14x14mm, Pitch 0.5mm, IPC Low Density)
pins: 1 GND (power), 2 TDI/IO (io), 3 NC, 4 NC, 5 NC, 6 IO (io), 7 TMS (in), 8 VCCI (power), 9 GND (power), 10 IO (io), 11 IO (io), 12 IO (io), 13 IO (io), 14 IO (io), 15 IO (io), 16 ~{TRST}/IO (io), 17 IO (io), 18 IO (io), 19 IO (io), 20 VCCI (power), 21 IO (io), 22 IO (io), 23 NC, 24 NC, 25 IO (io), 26 IO (io), 27 IO (io), 28 IO (io), 29 IO (io), 30 IO (io), 31 IO (io), 32 IO (io), 33 IO (io), 34 PRB/IO (io), 35 VCCA (power), 36 GND (power), 37 NC, 38 IO (io), 39 HCLK (in), 40 IO (io), 41 IO (io), 42 IO (io), 43 IO (io), 44 VCCI (power), 45 IO (io), 46 IO (io), 47 IO (io), 48 IO (io), 49 TDO/IO (io), 50 IO (io), 51 GND (power), 52 NC, 53 NC, 54 NC, 55 IO (io), 56 IO (io), 57 VCCA (power), 58 VCCI (power), 59 IO (io), 60 IO (io), 61 IO (io), 62 IO (io), 63 IO (io), 64 IO (io), 65 IO (io), 66 IO (io), 67 VCCA (power), 68 GND/LP (power), 69 GND (power), 70 IO (io), 71 IO (io), 72 IO (io), 73 NC, 74 NC, 75 NC, 76 IO (io), 77 IO (io), 78 IO (io), 79 IO (io), 80 IO (io), 81 IO (io), 82 VCCI (power), 83 IO (io), 84 IO (io), 85 IO (io), 86 IO (io), 87 CLKA (in), 88 CLKB (in), 89 NC, 90 VCCA (power), 91 GND (power), 92 PRA/IO (io), 93 IO (io), 94 IO (io), 95 IO (io), 96 IO (io), 97 IO (io), 98 IO (io), 99 IO (io), 100 TCK/IO (io)

## eX128-TQG64
designator U?
eX128 FPGA, 46 User IOs, 64-Pin TQFP, Speed Grade Standard, Commercial Grade, Pb-Free; DatasheetVersion: v4.3, Jun-2006; PackageVersion: ver11.2, Nov-2009; PackageReference: TQ64; PackageDescription: 64-Pin Plastic Quad Flat Pack (TQ64); Code_JEDEC: MS-026-BCD; ComponentLink1Description: Manufacturer URL; ComponentLink1URL: http://www.actel.com/; ComponentLink2Description: eX Datasheet; ComponentLink2URL: http://www.actel.com/documents/eX_DS.pdf; ComponentLink3Description: Package Mechanical Drawings; ComponentLink3URL: http://www.actel.com/documents/PckgMechDrwngs.pdf; ComponentLink4Description: eX Documents; ComponentLink4URL: http://www.actel.com/products/ex/docs.aspx
footprint TQ64_N (Thin QFP, 64-Leads, Body 10x10mm, Pitch 0.5mm, IPC Medium Density)
footprint TQ64_L (Thin QFP, 64-Leads, Body 10x10mm, Pitch 0.5mm, IPC High Density)
footprint TQ64_M (Thin QFP, 64-Leads, Body 10x10mm, Pitch 0.5mm, IPC Low Density)
pins: 1 GND (power), 2 TDI/IO (io), 3 IO (io), 4 TMS (in), 5 GND (power), 6 VCCI (power), 7 IO (io), 8 IO (io), 9 IO (io), 10 IO (io), 11 ~{TRST}/IO (io), 12 IO (io), 13 IO (io), 14 GND (power), 15 IO (io), 16 IO (io), 17 IO (io), 18 IO (io), 19 VCCI (power), 20 IO (io), 21 PRB/IO (io), 22 VCCA (power), 23 GND (power), 24 IO (io), 25 HCLK (in), 26 IO (io), 27 IO (io), 28 IO (io), 29 IO (io), 30 IO (io), 31 IO (io), 32 TDO/IO (io), 33 GND (power), 34 IO (io), 35 IO (io), 36 VCCA (power), 37 VCCI (power), 38 IO (io), 39 IO (io), 40 IO (io), 41 IO (io), 42 IO (io), 43 IO (io), 44 VCCA (power), 45 GND/LP (power), 46 GND (power), 47 IO (io), 48 IO (io), 49 IO (io), 50 IO (io), 51 IO (io), 52 VCCI (power), 53 IO (io), 54 IO (io), 55 CLKA (in), 56 CLKB (in), 57 VCCA (power), 58 GND (power), 59 PRA/IO (io), 60 IO (io), 61 VCCI (power), 62 IO (io), 63 IO (io), 64 TCK/IO (io)

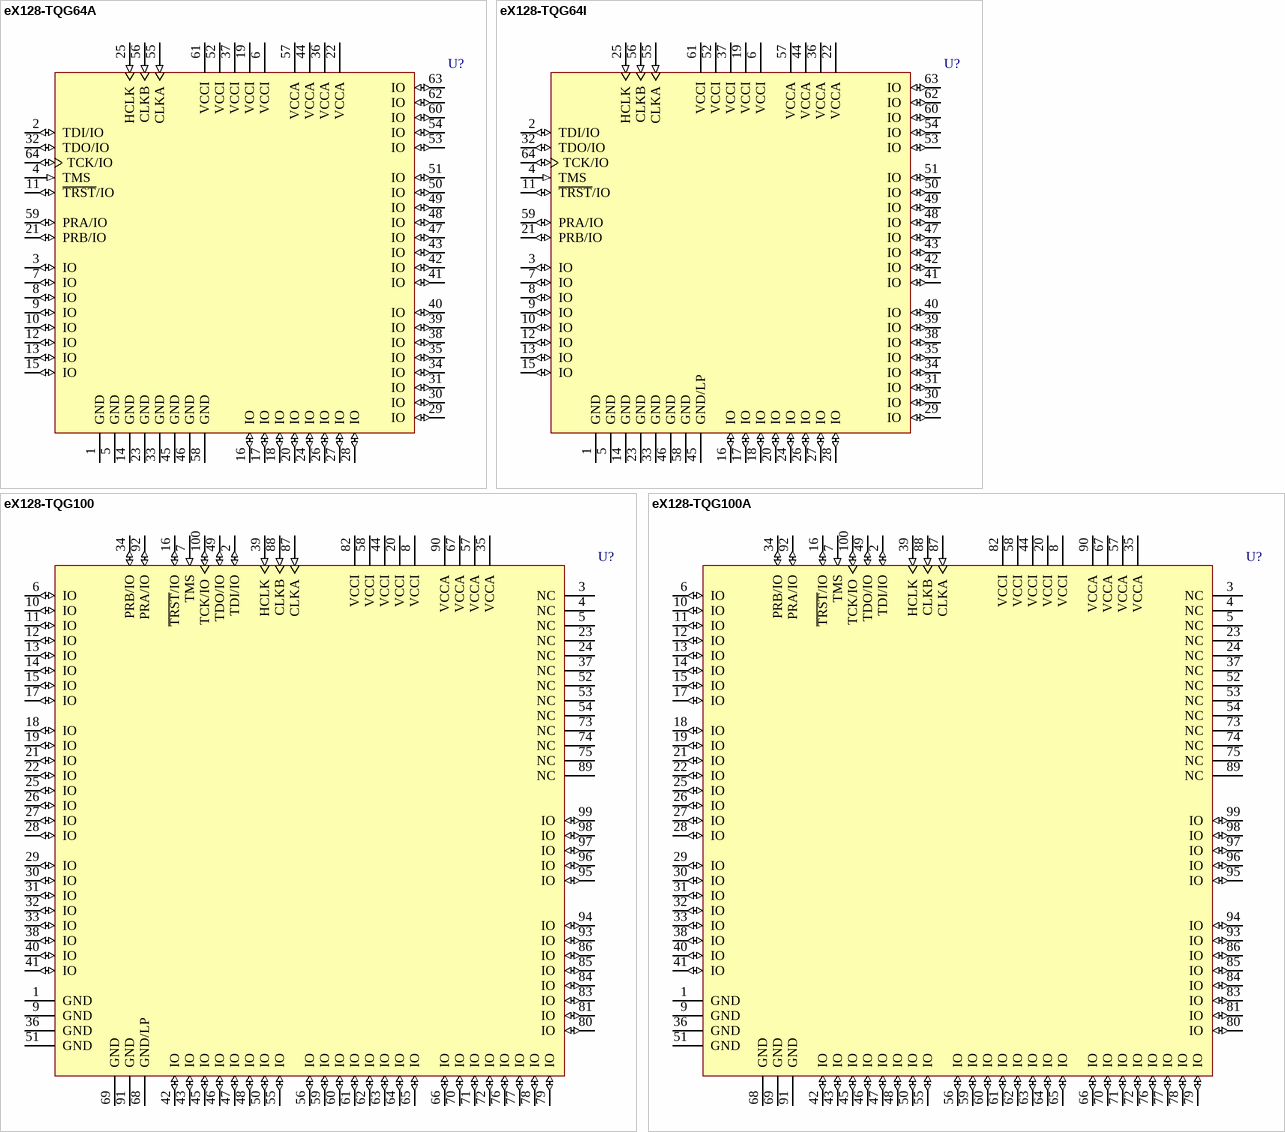
[diagram p22: symbols eX128-TQG64A to eX128-TQG100A]

## eX128-TQG64A
designator U?
eX128 FPGA, 46 User IOs, 64-Pin TQFP, Speed Grade Standard, Automotive Grade, Pb-Free; DatasheetVersion: v3.2, Jun-2006; PackageVersion: ver11.2, Nov-2009; PackageReference: TQ64; PackageDescription: 64-Pin Plastic Quad Flat Pack (TQ64); Code_JEDEC: MS-026-BCD; ComponentLink1Description: Manufacturer URL; ComponentLink1URL: http://www.actel.com/; ComponentLink2Description: eX Datasheet; ComponentLink2URL: http://www.actel.com/documents/MX_Auto_DS.pdf; ComponentLink3Description: Package Mechanical Drawings; ComponentLink3URL: http://www.actel.com/documents/PckgMechDrwngs.pdf; ComponentLink4Description: eX Documents; ComponentLink4URL: http://www.actel.com/products/ex/docs.aspx
footprint TQ64_N (Thin QFP, 64-Leads, Body 10x10mm, Pitch 0.5mm, IPC Medium Density)
footprint TQ64_L (Thin QFP, 64-Leads, Body 10x10mm, Pitch 0.5mm, IPC High Density)
footprint TQ64_M (Thin QFP, 64-Leads, Body 10x10mm, Pitch 0.5mm, IPC Low Density)
pins: 1 GND (power), 2 TDI/IO (io), 3 IO (io), 4 TMS (in), 5 GND (power), 6 VCCI (power), 7 IO (io), 8 IO (io), 9 IO (io), 10 IO (io), 11 ~{TRST}/IO (io), 12 IO (io), 13 IO (io), 14 GND (power), 15 IO (io), 16 IO (io), 17 IO (io), 18 IO (io), 19 VCCI (power), 20 IO (io), 21 PRB/IO (io), 22 VCCA (power), 23 GND (power), 24 IO (io), 25 HCLK (in), 26 IO (io), 27 IO (io), 28 IO (io), 29 IO (io), 30 IO (io), 31 IO (io), 32 TDO/IO (io), 33 GND (power), 34 IO (io), 35 IO (io), 36 VCCA (power), 37 VCCI (power), 38 IO (io), 39 IO (io), 40 IO (io), 41 IO (io), 42 IO (io), 43 IO (io), 44 VCCA (power), 45 GND (power), 46 GND (power), 47 IO (io), 48 IO (io), 49 IO (io), 50 IO (io), 51 IO (io), 52 VCCI (power), 53 IO (io), 54 IO (io), 55 CLKA (in), 56 CLKB (in), 57 VCCA (power), 58 GND (power), 59 PRA/IO (io), 60 IO (io), 61 VCCI (power), 62 IO (io), 63 IO (io), 64 TCK/IO (io)

## eX128-TQG64I
designator U?
eX128 FPGA, 46 User IOs, 64-Pin TQFP, Speed Grade Standard, Industrial Grade, Pb-Free; DatasheetVersion: v4.3, Jun-2006; PackageVersion: ver11.2, Nov-2009; PackageReference: TQ64; PackageDescription: 64-Pin Plastic Quad Flat Pack (TQ64); Code_JEDEC: MS-026-BCD; ComponentLink1Description: Manufacturer URL; ComponentLink1URL: http://www.actel.com/; ComponentLink2Description: eX Datasheet; ComponentLink2URL: http://www.actel.com/documents/eX_DS.pdf; ComponentLink3Description: Package Mechanical Drawings; ComponentLink3URL: http://www.actel.com/documents/PckgMechDrwngs.pdf; ComponentLink4Description: eX Documents; ComponentLink4URL: http://www.actel.com/products/ex/docs.aspx
footprint TQ64_N (Thin QFP, 64-Leads, Body 10x10mm, Pitch 0.5mm, IPC Medium Density)
footprint TQ64_L (Thin QFP, 64-Leads, Body 10x10mm, Pitch 0.5mm, IPC High Density)
footprint TQ64_M (Thin QFP, 64-Leads, Body 10x10mm, Pitch 0.5mm, IPC Low Density)
pins: 1 GND (power), 2 TDI/IO (io), 3 IO (io), 4 TMS (in), 5 GND (power), 6 VCCI (power), 7 IO (io), 8 IO (io), 9 IO (io), 10 IO (io), 11 ~{TRST}/IO (io), 12 IO (io), 13 IO (io), 14 GND (power), 15 IO (io), 16 IO (io), 17 IO (io), 18 IO (io), 19 VCCI (power), 20 IO (io), 21 PRB/IO (io), 22 VCCA (power), 23 GND (power), 24 IO (io), 25 HCLK (in), 26 IO (io), 27 IO (io), 28 IO (io), 29 IO (io), 30 IO (io), 31 IO (io), 32 TDO/IO (io), 33 GND (power), 34 IO (io), 35 IO (io), 36 VCCA (power), 37 VCCI (power), 38 IO (io), 39 IO (io), 40 IO (io), 41 IO (io), 42 IO (io), 43 IO (io), 44 VCCA (power), 45 GND/LP (power), 46 GND (power), 47 IO (io), 48 IO (io), 49 IO (io), 50 IO (io), 51 IO (io), 52 VCCI (power), 53 IO (io), 54 IO (io), 55 CLKA (in), 56 CLKB (in), 57 VCCA (power), 58 GND (power), 59 PRA/IO (io), 60 IO (io), 61 VCCI (power), 62 IO (io), 63 IO (io), 64 TCK/IO (io)

## eX128-TQG100
designator U?
eX128 FPGA, 70 User IOs, 100-Pin TQFP, Speed Grade Standard, Commercial Grade, Pb-Free; DatasheetVersion: v4.3, Jun-2006; PackageVersion: ver11.2, Nov-2009; PackageReference: TQ100; PackageDescription: 100-Pin Plastic Quad Flat Pack (TQ100); Code_JEDEC: MS-026-BED; ComponentLink1Description: Manufacturer URL; ComponentLink1URL: http://www.actel.com/; ComponentLink2Description: eX Datasheet; ComponentLink2URL: http://www.actel.com/documents/eX_DS.pdf; ComponentLink3Description: Package Mechanical Drawings; ComponentLink3URL: http://www.actel.com/documents/PckgMechDrwngs.pdf; ComponentLink4Description: eX Documents; ComponentLink4URL: http://www.actel.com/products/ex/docs.aspx
footprint TQ100_N (Thin QFP, 100-Leads, Body 14x14mm, Pitch 0.5mm, IPC Medium Density)
footprint TQ100_L (Thin QFP, 100-Leads, Body 14x14mm, Pitch 0.5mm, IPC High Density)
footprint TQ100_M (Thin QFP, 100-Leads, Body 14x14mm, Pitch 0.5mm, IPC Low Density)
pins: 1 GND (power), 2 TDI/IO (io), 3 NC, 4 NC, 5 NC, 6 IO (io), 7 TMS (in), 8 VCCI (power), 9 GND (power), 10 IO (io), 11 IO (io), 12 IO (io), 13 IO (io), 14 IO (io), 15 IO (io), 16 ~{TRST}/IO (io), 17 IO (io), 18 IO (io), 19 IO (io), 20 VCCI (power), 21 IO (io), 22 IO (io), 23 NC, 24 NC, 25 IO (io), 26 IO (io), 27 IO (io), 28 IO (io), 29 IO (io), 30 IO (io), 31 IO (io), 32 IO (io), 33 IO (io), 34 PRB/IO (io), 35 VCCA (power), 36 GND (power), 37 NC, 38 IO (io), 39 HCLK (in), 40 IO (io), 41 IO (io), 42 IO (io), 43 IO (io), 44 VCCI (power), 45 IO (io), 46 IO (io), 47 IO (io), 48 IO (io), 49 TDO/IO (io), 50 IO (io), 51 GND (power), 52 NC, 53 NC, 54 NC, 55 IO (io), 56 IO (io), 57 VCCA (power), 58 VCCI (power), 59 IO (io), 60 IO (io), 61 IO (io), 62 IO (io), 63 IO (io), 64 IO (io), 65 IO (io), 66 IO (io), 67 VCCA (power), 68 GND/LP (power), 69 GND (power), 70 IO (io), 71 IO (io), 72 IO (io), 73 NC, 74 NC, 75 NC, 76 IO (io), 77 IO (io), 78 IO (io), 79 IO (io), 80 IO (io), 81 IO (io), 82 VCCI (power), 83 IO (io), 84 IO (io), 85 IO (io), 86 IO (io), 87 CLKA (in), 88 CLKB (in), 89 NC, 90 VCCA (power), 91 GND (power), 92 PRA/IO (io), 93 IO (io), 94 IO (io), 95 IO (io), 96 IO (io), 97 IO (io), 98 IO (io), 99 IO (io), 100 TCK/IO (io)

## eX128-TQG100A
designator U?
eX128 FPGA, 70 User IOs, 100-Pin TQFP, Speed Grade Standard, Automotive Grade, Pb-Free; DatasheetVersion: v3.2, Jun-2006; PackageVersion: ver11.2, Nov-2009; PackageReference: TQ100; PackageDescription: 100-Pin Plastic Quad Flat Pack (TQ100); Code_JEDEC: MS-026-BED; ComponentLink1Description: Manufacturer URL; ComponentLink1URL: http://www.actel.com/; ComponentLink2Description: eX Datasheet; ComponentLink2URL: http://www.actel.com/documents/MX_Auto_DS.pdf; ComponentLink3Description: Package Mechanical Drawings; ComponentLink3URL: http://www.actel.com/documents/PckgMechDrwngs.pdf; ComponentLink4Description: eX Documents; ComponentLink4URL: http://www.actel.com/products/ex/docs.aspx
footprint TQ100_N (Thin QFP, 100-Leads, Body 14x14mm, Pitch 0.5mm, IPC Medium Density)
footprint TQ100_L (Thin QFP, 100-Leads, Body 14x14mm, Pitch 0.5mm, IPC High Density)
footprint TQ100_M (Thin QFP, 100-Leads, Body 14x14mm, Pitch 0.5mm, IPC Low Density)
pins: 1 GND (power), 2 TDI/IO (io), 3 NC, 4 NC, 5 NC, 6 IO (io), 7 TMS (in), 8 VCCI (power), 9 GND (power), 10 IO (io), 11 IO (io), 12 IO (io), 13 IO (io), 14 IO (io), 15 IO (io), 16 ~{TRST}/IO (io), 17 IO (io), 18 IO (io), 19 IO (io), 20 VCCI (power), 21 IO (io), 22 IO (io), 23 NC, 24 NC, 25 IO (io), 26 IO (io), 27 IO (io), 28 IO (io), 29 IO (io), 30 IO (io), 31 IO (io), 32 IO (io), 33 IO (io), 34 PRB/IO (io), 35 VCCA (power), 36 GND (power), 37 NC, 38 IO (io), 39 HCLK (in), 40 IO (io), 41 IO (io), 42 IO (io), 43 IO (io), 44 VCCI (power), 45 IO (io), 46 IO (io), 47 IO (io), 48 IO (io), 49 TDO/IO (io), 50 IO (io), 51 GND (power), 52 NC, 53 NC, 54 NC, 55 IO (io), 56 IO (io), 57 VCCA (power), 58 VCCI (power), 59 IO (io), 60 IO (io), 61 IO (io), 62 IO (io), 63 IO (io), 64 IO (io), 65 IO (io), 66 IO (io), 67 VCCA (power), 68 GND (power), 69 GND (power), 70 IO (io), 71 IO (io), 72 IO (io), 73 NC, 74 NC, 75 NC, 76 IO (io), 77 IO (io), 78 IO (io), 79 IO (io), 80 IO (io), 81 IO (io), 82 VCCI (power), 83 IO (io), 84 IO (io), 85 IO (io), 86 IO (io), 87 CLKA (in), 88 CLKB (in), 89 NC, 90 VCCA (power), 91 GND (power), 92 PRA/IO (io), 93 IO (io), 94 IO (io), 95 IO (io), 96 IO (io), 97 IO (io), 98 IO (io), 99 IO (io), 100 TCK/IO (io)

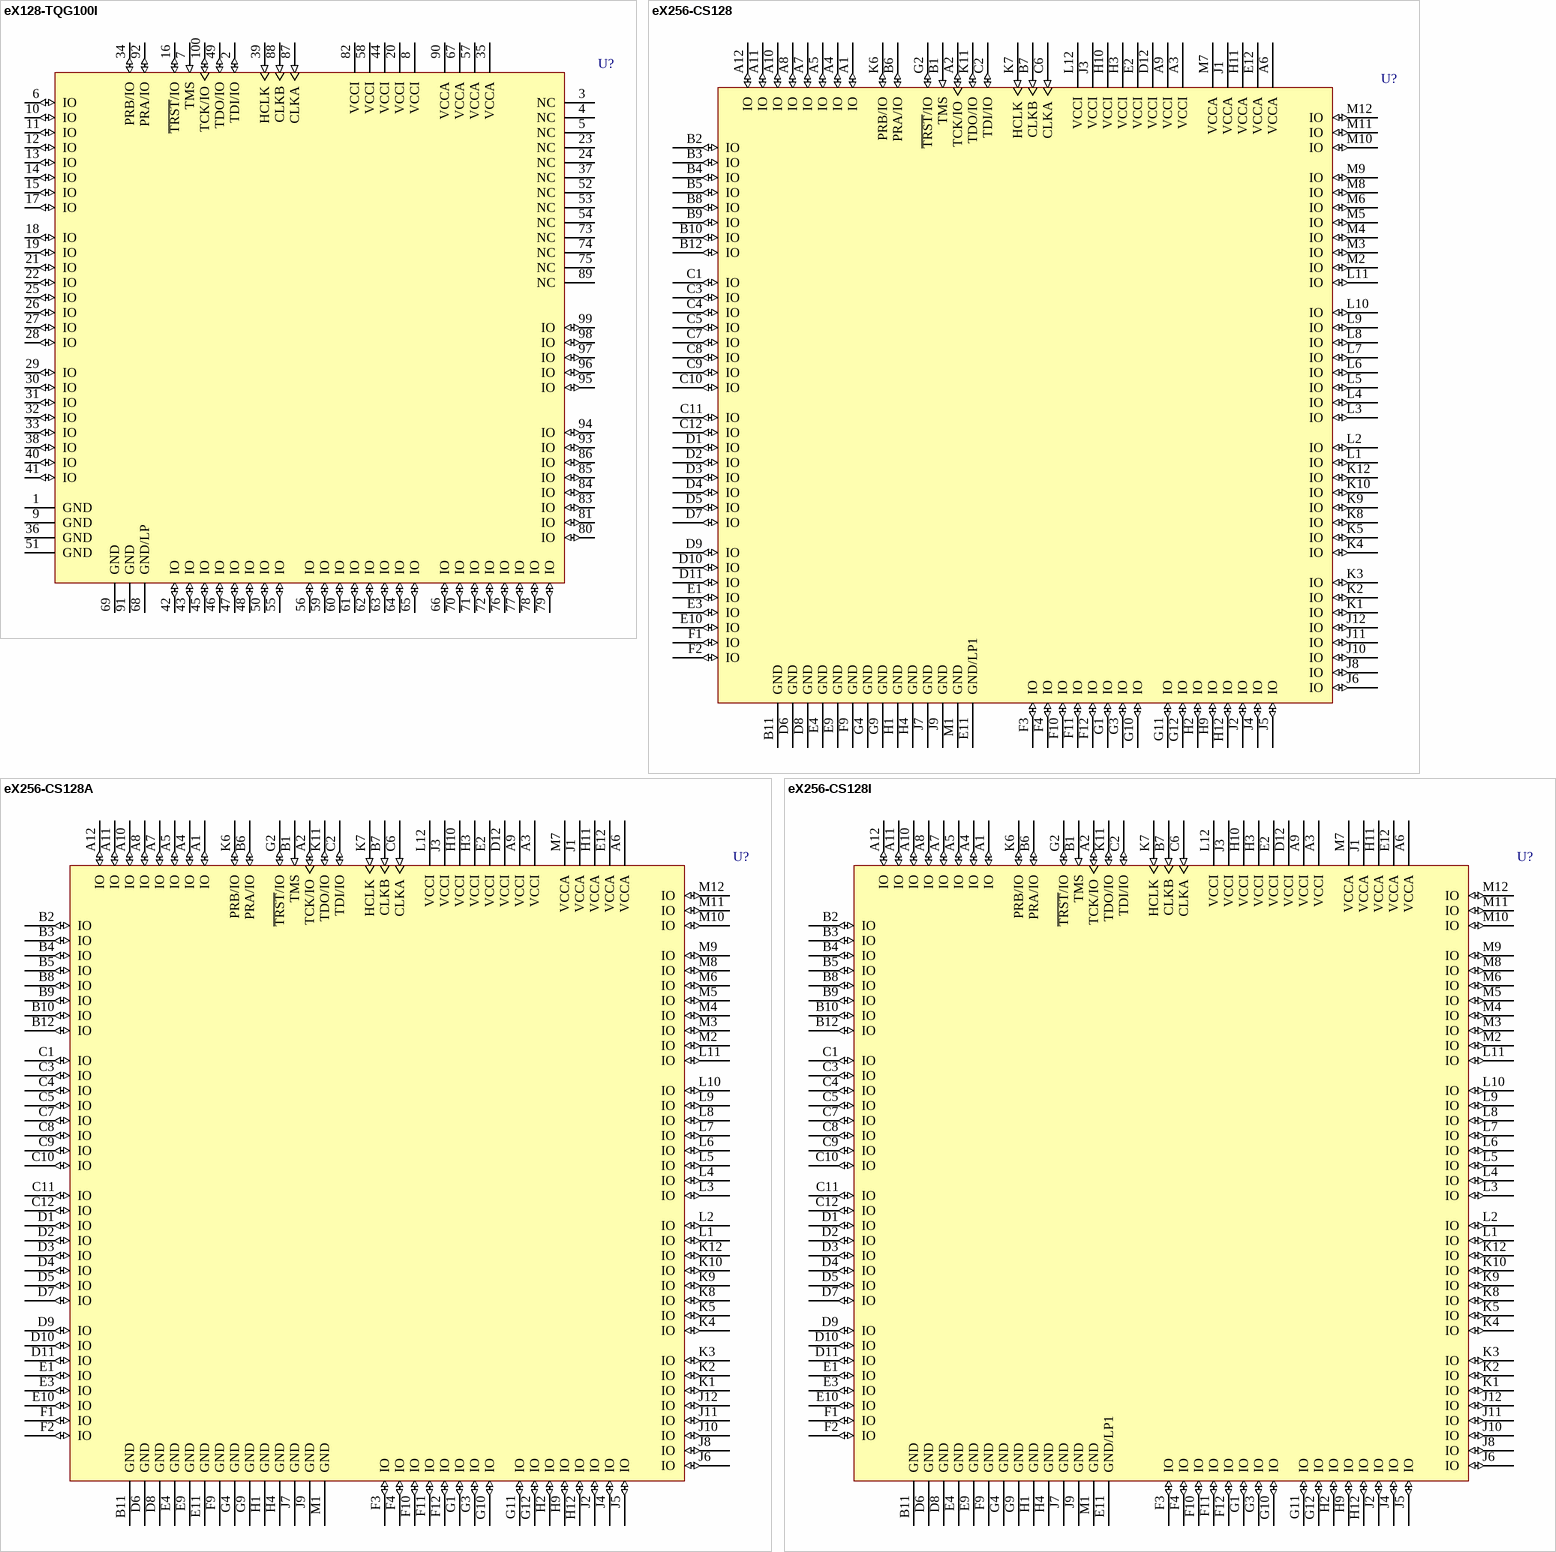
[diagram p23: symbols eX128-TQG100I to eX256-CS128I]

## eX128-TQG100I
designator U?
eX128 FPGA, 70 User IOs, 100-Pin TQFP, Speed Grade Standard, Industrial Grade, Pb-Free; DatasheetVersion: v4.3, Jun-2006; PackageVersion: ver11.2, Nov-2009; PackageReference: TQ100; PackageDescription: 100-Pin Plastic Quad Flat Pack (TQ100); Code_JEDEC: MS-026-BED; ComponentLink1Description: Manufacturer URL; ComponentLink1URL: http://www.actel.com/; ComponentLink2Description: eX Datasheet; ComponentLink2URL: http://www.actel.com/documents/eX_DS.pdf; ComponentLink3Description: Package Mechanical Drawings; ComponentLink3URL: http://www.actel.com/documents/PckgMechDrwngs.pdf; ComponentLink4Description: eX Documents; ComponentLink4URL: http://www.actel.com/products/ex/docs.aspx
footprint TQ100_N (Thin QFP, 100-Leads, Body 14x14mm, Pitch 0.5mm, IPC Medium Density)
footprint TQ100_L (Thin QFP, 100-Leads, Body 14x14mm, Pitch 0.5mm, IPC High Density)
footprint TQ100_M (Thin QFP, 100-Leads, Body 14x14mm, Pitch 0.5mm, IPC Low Density)
pins: 1 GND (power), 2 TDI/IO (io), 3 NC, 4 NC, 5 NC, 6 IO (io), 7 TMS (in), 8 VCCI (power), 9 GND (power), 10 IO (io), 11 IO (io), 12 IO (io), 13 IO (io), 14 IO (io), 15 IO (io), 16 ~{TRST}/IO (io), 17 IO (io), 18 IO (io), 19 IO (io), 20 VCCI (power), 21 IO (io), 22 IO (io), 23 NC, 24 NC, 25 IO (io), 26 IO (io), 27 IO (io), 28 IO (io), 29 IO (io), 30 IO (io), 31 IO (io), 32 IO (io), 33 IO (io), 34 PRB/IO (io), 35 VCCA (power), 36 GND (power), 37 NC, 38 IO (io), 39 HCLK (in), 40 IO (io), 41 IO (io), 42 IO (io), 43 IO (io), 44 VCCI (power), 45 IO (io), 46 IO (io), 47 IO (io), 48 IO (io), 49 TDO/IO (io), 50 IO (io), 51 GND (power), 52 NC, 53 NC, 54 NC, 55 IO (io), 56 IO (io), 57 VCCA (power), 58 VCCI (power), 59 IO (io), 60 IO (io), 61 IO (io), 62 IO (io), 63 IO (io), 64 IO (io), 65 IO (io), 66 IO (io), 67 VCCA (power), 68 GND/LP (power), 69 GND (power), 70 IO (io), 71 IO (io), 72 IO (io), 73 NC, 74 NC, 75 NC, 76 IO (io), 77 IO (io), 78 IO (io), 79 IO (io), 80 IO (io), 81 IO (io), 82 VCCI (power), 83 IO (io), 84 IO (io), 85 IO (io), 86 IO (io), 87 CLKA (in), 88 CLKB (in), 89 NC, 90 VCCA (power), 91 GND (power), 92 PRA/IO (io), 93 IO (io), 94 IO (io), 95 IO (io), 96 IO (io), 97 IO (io), 98 IO (io), 99 IO (io), 100 TCK/IO (io)

## eX256-CS128
designator U?
eX256 FPGA, 100 User IOs, 128-Pin CSP, Speed Grade Standard, Commercial Grade; DatasheetVersion: v4.3, Jun-2006; PackageVersion: ver11.2, Nov-2009; PackageReference: CS128; PackageDescription: 128-Ball Chip Scale Package (CS128); Code_JEDEC: MO-205-BD; ComponentLink1Description: Manufacturer URL; ComponentLink1URL: http://www.actel.com/; ComponentLink2Description: eX Datasheet; ComponentLink2URL: http://www.actel.com/documents/eX_DS.pdf; ComponentLink3Description: Package Mechanical Drawings; ComponentLink3URL: http://www.actel.com/documents/PckgMechDrwngs.pdf; ComponentLink4Description: eX Documents; ComponentLink4URL: http://www.actel.com/products/ex/docs.aspx
footprint CS128 (BGA, 128-Leads, Body 11x11mm, Pitch 0.8mm)
pins: A1 IO (io), A2 TCK/IO (io), A3 VCCI (power), A4 IO (io), A5 IO (io), A6 VCCA (power), A7 IO (io), A8 IO (io), A9 VCCI (power), A10 IO (io), A11 IO (io), A12 IO (io), B1 TMS (in), B2 IO (io), B3 IO (io), B4 IO (io), B5 IO (io), B6 PRA/IO (io), B7 CLKB (in), B8 IO (io), B9 IO (io), B10 IO (io), B11 GND (power), B12 IO (io), C1 IO (io), C2 TDI/IO (io), C3 IO (io), C4 IO (io), C5 IO (io), C6 CLKA (in), C7 IO (io), C8 IO (io), C9 IO (io), C10 IO (io), C11 IO (io), C12 IO (io), D1 IO (io), D2 IO (io), D3 IO (io), D4 IO (io), D5 IO (io), D6 GND (power), D7 IO (io), D8 GND (power), D9 IO (io), D10 IO (io), D11 IO (io), D12 VCCI (power), E1 IO (io), E2 VCCI (power), E3 IO (io), E4 GND (power), E9 GND (power), E10 IO (io), E11 GND/LP1 (power), E12 VCCA (power), F1 IO (io), F2 IO (io), F3 IO (io), F4 IO (io), F9 GND (power), F10 IO (io), F11 IO (io), F12 IO (io), G1 IO (io), G2 ~{TRST}/IO (io), G3 IO (io), G4 GND (power), G9 GND (power), G10 IO (io), G11 IO (io), G12 IO (io), H1 GND (power), H2 IO (io), H3 VCCI (power), H4 GND (power), H9 IO (io), H10 VCCI (power), H11 VCCA (power), H12 IO (io), J1 VCCA (power), J2 IO (io), J3 VCCI (power), J4 IO (io), J5 IO (io), J6 IO (io), J7 GND (power), J8 IO (io), J9 GND (power), J10 IO (io), J11 IO (io), J12 IO (io), K1 IO (io), K2 IO (io), K3 IO (io), K4 IO (io), K5 IO (io), K6 PRB/IO (io), K7 HCLK (in), K8 IO (io), K9 IO (io), K10 IO (io), K11 TDO/IO (io), K12 IO (io), L1 IO (io), L2 IO (io), L3 IO (io), L4 IO (io), L5 IO (io), L6 IO (io), L7 IO (io), L8 IO (io), L9 IO (io), L10 IO (io), L11 IO (io), L12 VCCI (power), M1 GND (power), M2 IO (io), M3 IO (io), M4 IO (io), M5 IO (io), M6 IO (io), M7 VCCA (power), M8 IO (io), M9 IO (io), M10 IO (io), M11 IO (io), M12 IO (io)

## eX256-CS128A
designator U?
eX256 FPGA, 100 User IOs, 128-Pin CSP, Speed Grade Standard, Automotive Grade; DatasheetVersion: v3.2, Jun-2006; PackageVersion: ver11.2, Nov-2009; PackageReference: CS128; PackageDescription: 128-Ball Chip Scale Package (CS128); Code_JEDEC: MO-205-BD; ComponentLink1Description: Manufacturer URL; ComponentLink1URL: http://www.actel.com/; ComponentLink2Description: eX Datasheet; ComponentLink2URL: http://www.actel.com/documents/MX_Auto_DS.pdf; ComponentLink3Description: Package Mechanical Drawings; ComponentLink3URL: http://www.actel.com/documents/PckgMechDrwngs.pdf; ComponentLink4Description: eX Documents; ComponentLink4URL: http://www.actel.com/products/ex/docs.aspx
footprint CS128 (BGA, 128-Leads, Body 11x11mm, Pitch 0.8mm)
pins: A1 IO (io), A2 TCK/IO (io), A3 VCCI (power), A4 IO (io), A5 IO (io), A6 VCCA (power), A7 IO (io), A8 IO (io), A9 VCCI (power), A10 IO (io), A11 IO (io), A12 IO (io), B1 TMS (in), B2 IO (io), B3 IO (io), B4 IO (io), B5 IO (io), B6 PRA/IO (io), B7 CLKB (in), B8 IO (io), B9 IO (io), B10 IO (io), B11 GND (power), B12 IO (io), C1 IO (io), C2 TDI/IO (io), C3 IO (io), C4 IO (io), C5 IO (io), C6 CLKA (in), C7 IO (io), C8 IO (io), C9 IO (io), C10 IO (io), C11 IO (io), C12 IO (io), D1 IO (io), D2 IO (io), D3 IO (io), D4 IO (io), D5 IO (io), D6 GND (power), D7 IO (io), D8 GND (power), D9 IO (io), D10 IO (io), D11 IO (io), D12 VCCI (power), E1 IO (io), E2 VCCI (power), E3 IO (io), E4 GND (power), E9 GND (power), E10 IO (io), E11 GND (power), E12 VCCA (power), F1 IO (io), F2 IO (io), F3 IO (io), F4 IO (io), F9 GND (power), F10 IO (io), F11 IO (io), F12 IO (io), G1 IO (io), G2 ~{TRST}/IO (io), G3 IO (io), G4 GND (power), G9 GND (power), G10 IO (io), G11 IO (io), G12 IO (io), H1 GND (power), H2 IO (io), H3 VCCI (power), H4 GND (power), H9 IO (io), H10 VCCI (power), H11 VCCA (power), H12 IO (io), J1 VCCA (power), J2 IO (io), J3 VCCI (power), J4 IO (io), J5 IO (io), J6 IO (io), J7 GND (power), J8 IO (io), J9 GND (power), J10 IO (io), J11 IO (io), J12 IO (io), K1 IO (io), K2 IO (io), K3 IO (io), K4 IO (io), K5 IO (io), K6 PRB/IO (io), K7 HCLK (in), K8 IO (io), K9 IO (io), K10 IO (io), K11 TDO/IO (io), K12 IO (io), L1 IO (io), L2 IO (io), L3 IO (io), L4 IO (io), L5 IO (io), L6 IO (io), L7 IO (io), L8 IO (io), L9 IO (io), L10 IO (io), L11 IO (io), L12 VCCI (power), M1 GND (power), M2 IO (io), M3 IO (io), M4 IO (io), M5 IO (io), M6 IO (io), M7 VCCA (power), M8 IO (io), M9 IO (io), M10 IO (io), M11 IO (io), M12 IO (io)